# Altium schematic symbol library switches.SchLib: 1 symbol
Pins are listed as number, name and electrical type; pins without a type are passive.

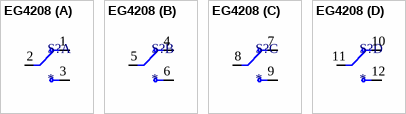
[diagram p0: symbol EG4208]

## EG4208
designator S?
Slide Switch, EG Series, 4PDT, ON-ON, 4mm Actuator, 200mA DC, 30VDC, R/A PC | E-Switch EG4208; Manufacturer Part Number: EG4208; Manufacturer: E-Switch; Supplier Part Number: EG1914-ND; Supplier: DigiKey; Value: *; Package/Case: Bulk
footprint SW_EG4208
part A pins: 1, 2, 3
part B pins: 4, 5, 6
part C pins: 7, 8, 9
part D pins: 10, 11, 12